# Altium schematic symbol library 10S_BYS_Schlib1.SchLib: 29 symbols
Pins are listed as number, name and electrical type; pins without a type are passive.

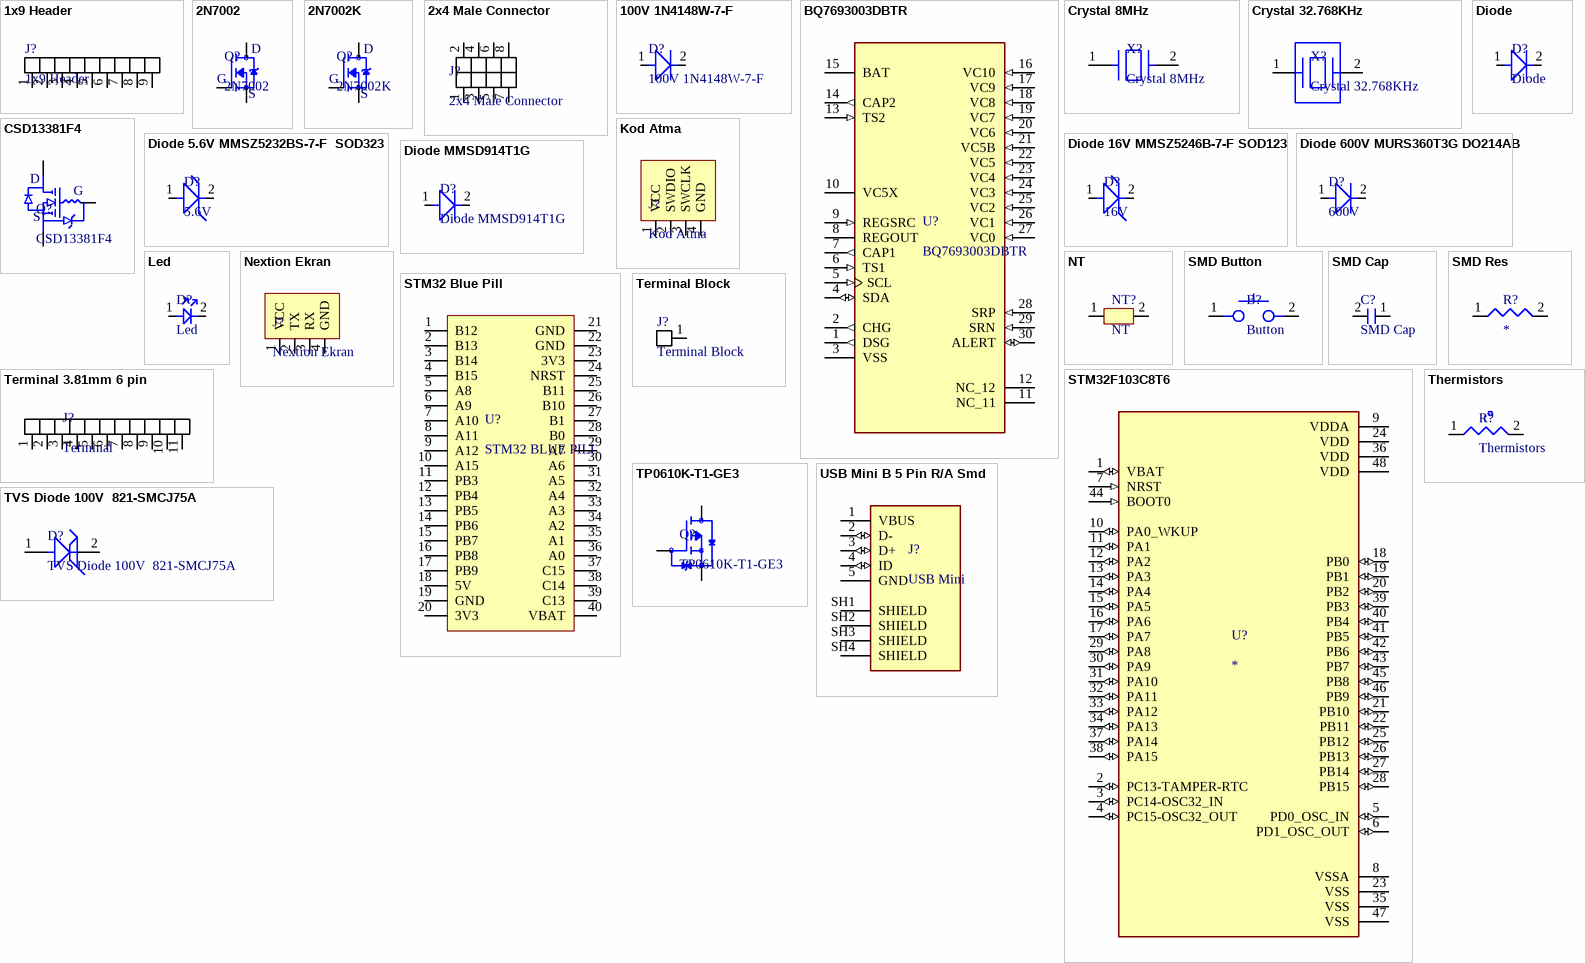
[diagram p0: symbols 1x9 Header to USB Mini B 5 Pin R/A Smd]

## 1x9 Header
designator J?
ComponentLink1Description: Satın Alma Linki; ComponentLink1URL: https://ozdisan.com/konnektor-ve-baglanti-elemanlari/header-konnektorler/pin-headerlar/DS1021-1X40SF11-B
footprint 1x9 Header
pins: 1, 2, 3, 4, 5, 6, 7, 8, 9

## 2N7002
designator Q?
N-Channel 60V 280mA (Ta) 350mW (Ta) Surface Mount SOT-23-3 (TO-236); Price: None; Package: None; Availability: Unavailable; MP: 2N7002; Value: *; ComponentLink1Description: Satın Alma Linki; ComponentLink1URL: https://ozdisan.com/guc-yari-iletkenleri/mosfetler/discrete-mosfetler/2N7002ET1G; ComponentLink2Description: Stokta Yok Satın Alma Linki; ComponentLink2URL: https://www.mouser.com.tr/ProductDetail/onsemi/2N7002ET1G?qs=PNhECL2hiouLrcURjXOtOg%3D%3D
footprint 2N7002ET1G Sot23
pins: 1, 2, 3
text: D; G; S

## 2N7002K
designator Q?
MP: 2N7002; Price: None; Package: None; Availability: Unavailable; Value: *; ComponentLink2Description: Stokta Yok Satın Alma Linki; ComponentLink2URL: https://www.mouser.com.tr/ProductDetail/Texas-Instruments/CSD19536KTT?qs=MiqG6Kq1qKP2NIsb3jZrDg%3D%3D; ComponentLink3Description: Satın Alma Linki; ComponentLink3URL: https://ozdisan.com/guc-yari-iletkenleri/mosfetler/discrete-mosfetler/2N7002KR100001
footprint SOT23
pins: 1, 2, 3
text: D; G; S

## 2x4 Male Connector
designator J?
ComponentLink1Description: Satın Alma Linki; ComponentLink1URL: https://tr.aliexpress.com/item/1005003057058334.html?spm=a2g0o.detail.1000014.5.7462aab6m2wUB9&gps-id=pcDetailBottomMoreOtherSeller&scm=1007.40000.267768.0&scm_id=1007.40000.267768.0&scm-url=1007.40000.267768.0&pvid=13aebcc4-8fe3-410a-825e-5f00a51fea93&_t=gps-id:pcDetailBottomMoreOtherSeller,scm-url:1007.40000.267768.0,pvid:13aebcc4-8fe3-410a-825e-5f00a51fea93,tpp_buckets:668%232846%238114%23728&pdp_ext_f=%7B%22sku_id%22%3A%2212000023625118168%22%2C%22sceneId%22%3A%2230050%22%7D&pdp_npi=2%40dis%21TRY%2116.15%2115.16%21%21%21%21%21%40211b442016658460773273581ed7e6%2112000023625118168%21rec; ComponentLink2Description: Satın Alma Linki; ComponentLink2URL: https://tr.aliexpress.com/item/1005002409430150.html?spm=a2g0o.detail.1000013.2.7462aab6m2wUB9&gps-id=pcDetailBottomMoreThisSeller&scm=1007.13339.291025.0&scm_id=1007.13339.291025.0&scm-url=1007.13339.291025.0&pvid=0634f447-b8d3-4b8e-985f-9da1bd6d18ed&_t=gps-id:pcDetailBottomMoreThisSeller,scm-url:1007.13339.291025.0,pvid:0634f447-b8d3-4b8e-985f-9da1bd6d18ed,tpp_buckets:668%232846%238114%231999&pdp_ext_f=%7B%22sku_id%22%3A%2212000020560012138%22%2C%22sceneId%22%3A%223339%22%7D&pdp_npi=2%40dis%21TRY%2116.74%2116.74%21%21%21%21%21%40211b442016658460398783143ed7e6%2112000020560012138%21rec
footprint TE_1761606-7
pins: 1, 2, 3, 4, 5, 6, 7, 8

## 100V 1N4148W-7-F
designator D?
ComponentLink1Description: Stokta Yok Satın Alma Linki; ComponentLink1URL: https://www.mouser.com.tr/ProductDetail/Diodes-Incorporated/1N4148W-7-F?qs=LHX0FizJzg7Ae9ZM8LTAWw%3D%3D; ComponentLink2Description: Satın Alma Linki; ComponentLink2URL: https://www.entegreci.com/urun/1n4148w-7-f/?gclid=CjwKCAjwkaSaBhA4EiwALBgQaFopvUdynQHBZreNY5J0ioudBY3UnuWWELuLj8oC_KfvY1kY9nnM0hoCZsEQAvD_BwE
footprint Diode 100V 1N4148W-7-F SOD123
pins: 1, 2

## BQ7693003DBTR
designator U?
6 to 10-Series Cell Li-Ion and Li-Phosphate Battery Monitor (bq76940 Family) 30-TSSOP -40 to 85; MF: Texas Instruments; Value: *; MP: BQ7693003DBTR; Package: TSSOP-30 Texas Instruments; Availability: Unavailable; SnapEDA_Link: https://www.snapeda.com/parts/BQ7693003DBTR/Texas%20Instruments/view-part/1237538/?ref=snap; Price: None; Purchase-URL: https://pricing.snapeda.com/search/part/BQ7693003DBTR/?ref=eda; ComponentLink1Description: Satın Alma Linki; ComponentLink1URL: https://www.mouser.com.tr/ProductDetail/Texas-Instruments/BQ7693003DBT?qs=%2Fd%252BFzHvH4c10HO0NTzPiCQ%3D%3D
footprint SOP50P640X120-30N
pins: 1 DSG (out), 2 CHG (out), 3 VSS (power), 4 SDA (io), 5 SCL (in), 6 TS1 (in), 7 CAP1 (out), 8 REGOUT (power), 9 REGSRC (in), 10 VC5X (power), 11 NC_11, 12 NC_12, 13 TS2 (in), 14 CAP2 (out), 15 BAT (power), 16 VC10 (in), 17 VC9 (in), 18 VC8 (in), 19 VC7 (in), 20 VC6 (in), 21 VC5B (in), 22 VC5 (in), 23 VC4 (in), 24 VC3 (in), 25 VC2 (in), 26 VC1 (in), 27 VC0 (in), 28 SRP (in), 29 SRN (in), 30 ALERT (io)

## Crystal 8MHz
designator X?
ComponentLink1Description: Satın Alma Linki; ComponentLink1URL: https://www.direnc.net/8000mhz-smd-kristal-hc-49us?language=tr&h=f6fe7d69&gclid=CjwKCAjwtKmaBhBMEiwAyINuwJlxOUSKq7yEOg6vZHQjk9zh6-KvzR1xNY_vDkS74c813dLFzBtt_RoCPOsQAvD_BwE
footprint Crystal 8MHz
pins: 1, 2

## Crystal 32.768KHz
designator X?
ComponentLink1Description: Satın Alma Linki; ComponentLink1URL: https://www.ozdisan.com/pasif-komponentler/kristaller-osilatorler-ve-rezanatorler/kristaller/R26-32-768-12-5-EXT
footprint Crystal 32.768KHz
pins: 1, 2

## CSD13381F4
designator Q?
N-Channel 12V 2.1A _Ta_ 500mW _Ta_ Surface Mount 3-PICOSTAR; MF: Texas Instruments; MP: CSD13381F4; SnapEDA_Link: https://www.snapeda.com/parts/CSD13381F4/Texas%20Instruments/view-part/138792/?ref=snap; Value: *; Package: XFDFN-3 Texas Instruments; Price: None; Availability: Unavailable; ComponentLink1Description: Satın Alma Linki; ComponentLink1URL: https://www.mouser.com.tr/ProductDetail/Texas-Instruments/CSD13381F4?qs=OGNXFUZBARsOFU3S%252BJVO5g%3D%3D
footprint DFN100X60X35-3N
pins: 1, 2, 3
text: D; G; S

## Diode
designator D?
ComponentLink1Description: Satın Alma Linki; ComponentLink1URL: https://www.ozdisan.com/guc-yari-iletkenleri/diyotlar-modul-diyotlar-ve-dogrultucular/schottky-diyotlar/SS14R100001; ComponentLink2Description: Aynısı Değil Satın Alma Linki; ComponentLink2URL: https://cdn.ozdisan.com/ETicaret_Dosya/34293_8630261.pdf
footprint Diode
pins: 1, 2

## Diode 5.6V MMSZ5232BS-7-F  SOD323
designator D?, comment 5.6V
Diode 5.6V MMSZ5232BS-7-F  SOD323; ComponentLink1Description: Satın Alma Linki; ComponentLink1URL: https://www.mouser.com.tr/ProductDetail/Diodes-Incorporated/MMSZ5232BS-7-F?qs=4u4ada%252BXaA6tF4wEjgPe2w%3D%3D; ComponentLink2Description: Aynısı Değil Satın Alma Linki; ComponentLink2URL: https://www.ozdisan.com/guc-yari-iletkenleri/diyot-modul-diyot-dogrultucular/zener-diyotlar/MMSZ5226B-7-F
footprint Diode 5.6V MMSZ5 SOD323
pins: 1, 2

## Diode 16V MMSZ5246B-7-F SOD123
designator D?, comment 16V
Diode 16V MMSZ5246B-7-F / SOD123; ComponentLink1Description: Satın Alma Linki; ComponentLink1URL: https://www.mouser.com.tr/ProductDetail/Diodes-Incorporated/MMSZ5246B-7-F?qs=YL8BMuhSknSfmeWTDXIh1Q%3D%3D
footprint Diode 16V MMSZ16V SOD123
pins: 1, 2

## Diode 600V MURS360T3G DO214AB
designator D?, comment 600V
Diode 600V MURS360T3G DO214AB; ComponentLink1Description: Satın Alma Linki; ComponentLink1URL: https://www.ozdisan.com/Product/Detail/342503/MURS360T3G; ComponentLink2Description: Stok Yok Satın Alma Linki; ComponentLink2URL: https://www.mouser.com.tr/ProductDetail/onsemi/MURS360T3G?qs=Gev%252BmEvV0iZjP8fPE8409A%3D%3D
footprint Diode 600V MURS360T3G DO214AB
pins: 1, 2

## Diode MMSD914T1G
designator D?
ComponentLink1Description: Satın Alma Linki; ComponentLink1URL: https://www.mouser.com.tr/ProductDetail/onsemi/MMSD914T1G?qs=P4IOph%252Bbot8PMEQIZWg1LQ%3D%3D
footprint Diode MMSD914T1G
pins: 1, 2

## Kod Atma
designator J?
ComponentLink1Description: Satın Alma Linki; ComponentLink1URL: https://www.ozdisan.com/konnektor-ve-baglanti-elemanlari/header-konnektorler/pin-headerlar/5PH1RDA25126G0NNBL6X3X3-; ComponentLink2Description: Satıın Alma Linki; ComponentLink2URL: https://www.robotistan.com/jstxh-254mm-egik-4pin-konnektor; ComponentLink3Description: Satın Alma Linki; ComponentLink3URL: https://www.robotistan.com/jstxh-254mm-egik-4pin-konnektor
footprint 1X4 Male Header
pins: 1 VCC, 2 SWDIO, 3 SWCLK, 4 GND

## Led
designator D?
ComponentLink1Description: Satın Alma Linki; ComponentLink1URL: https://ozdisan.com/led-ve-aydinlatma-cozumleri/led-komponentler/sinyal-ledler-renkli/27-21R6C-AP1Q2B3C
footprint Led
pins: 1, 2

## Nextion Ekran
designator J?
ComponentLink1Description: Satın Alma Linki; ComponentLink1URL: https://www.ozdisan.com/konnektor-ve-baglanti-elemanlari/header-konnektorler/pin-headerlar/5PH1RDA25126G0NNBL6X3X3-; ComponentLink2Description: Satıın Alma Linki; ComponentLink2URL: https://www.robotistan.com/jstxh-254mm-egik-4pin-konnektor; ComponentLink3Description: Satın Alma Linki; ComponentLink3URL: https://www.robotistan.com/jstxh-254mm-egik-4pin-konnektor
footprint 1X4 Male Header
pins: 1 VCC, 2 TX, 3 RX, 4 GND

## NT
designator NT?
ComponentLink1Description: Satın Alma Linki; ComponentLink1URL: *
footprint Net Tie
pins: 1, 2

## SMD Button
designator B?, comment Button
ComponentLink1Description: Satın Alma Linki; ComponentLink1URL: https://www.ozdisan.com/elektromekanik-komponentler/sivicler-ve-anahtarlar/tact-sivicler/L-KLS7-TS3611-2-5-180-T
footprint SMD Button
pins: 1, 2

## SMD Cap
designator C?
ComponentLink1Description: 0.22uF 0603 Özdi 12 16V; ComponentLink1URL: https://www.ozdisan.com/pasif-komponentler/kondansatorler/smt-smd-ve-mlcc-kondansatorler/CL10B224KO8NNNC; ComponentLink2Description: 10uF 0805 Özdis 2 35V; ComponentLink2URL: https://www.ozdisan.com/pasif-komponentler/kondansatorler/smt-smd-ve-mlcc-kondansatorler/GRM21BR6YA106ME43L; ComponentLink3Description: 1uF 0603 Özdis 2 50V; ComponentLink3URL: https://www.ozdisan.com/pasif-komponentler/kondansatorler/smt-smd-ve-mlcc-kondansatorler/CL10A105KB8NNNC; ComponentLink4Description: 1uF 0603 Özdis 2 16V; ComponentLink4URL: https://www.ozdisan.com/pasif-komponentler/kondansatorler/smt-smd-ve-mlcc-kondansatorler/CC0603KRX7R7BB105; ComponentLink5Description: 4.7nF 0603 Özdis 2 50V; ComponentLink5URL: https://www.ozdisan.com/pasif-komponentler/kondansatorler/smt-smd-ve-mlcc-kondansatorler/CL10B472KB8NNNC; ComponentLink6Description: 4.7uF 0603 Özdis 2; ComponentLink6URL: https://ozdisan.com/pasif-komponentler/kondansatorler/smt-smd-ve-mlcc-kondansatorler/CC0603KRX5R6BB475; ComponentLink7Description: 470pF 0603 Özdis 1; ComponentLink7URL: https://www.ozdisan.com/pasif-komponentler/kondansatorler/smt-smd-ve-mlcc-kondansatorler/CL10B471KB8NNNC; ComponentLink8Description: 100nF 0603 Özdis 3 50V; ComponentLink8URL: https://www.ozdisan.com/pasif-komponentler/kondansatorler/smt-smd-ve-mlcc-kondansatorler/CL10B104KB8NNNC; ComponentLink9Description: 100nF 0603 Özdi 2; ComponentLink9URL: https://www.ozdisan.com/pasif-komponentler/kondansatorler/smt-smd-ve-mlcc-kondansatorler/CL10B104KO8NNNC; ComponentLink10Description: 100nF 0805 Özd 4; ComponentLink10URL: https://www.ozdisan.com/pasif-komponentler/kondansatorler/smt-smd-ve-mlcc-kondansatorler/CL21B104KCFNNNE; ComponentLink11Description: 20pF 0603 Özdis; ComponentLink11URL: https://www.ozdisan.com/pasif-komponentler/kondansatorler/smt-smd-ve-mlcc-kondansatorler/CL10C200JB8NNNC
footprint CAP 0805
footprint CAP 0603_1608 (Chip Capacitor, 2-Leads, Body 1.60x0.80mm, IPC Medium Density)
pins: 1, 2

## SMD Res
designator R?
ComponentLink1Description: 1k 0603 Özdis 20; ComponentLink1URL: https://ozdisan.com/pasif-komponentler/direncler/smt-smd-ve-cip-direncler/0603SAJ0102T5E; ComponentLink2Description: 28 0603 Özdis 10; ComponentLink2URL: https://ozdisan.com/pasif-komponentler/direncler/smt-smd-ve-cip-direncler/0603SAF280JT5E; ComponentLink3Description: 10k 0603 Özdis 13; ComponentLink3URL: https://ozdisan.com/pasif-komponentler/direncler/smt-smd-ve-cip-direncler/0603SAJ0103T5E; ComponentLink4Description: 100k 603 Özdis 2; ComponentLink4URL: https://ozdisan.com/pasif-komponentler/direncler/smt-smd-ve-cip-direncler/0603SAJ0104T5E; ComponentLink5Description: 100 0603 Özdis 15; ComponentLink5URL: https://ozdisan.com/pasif-komponentler/direncler/smt-smd-ve-cip-direncler/0603SAJ0101T5E; ComponentLink6Description: 3k 0603 Özdis 2; ComponentLink6URL: https://ozdisan.com/pasif-komponentler/direncler/smt-smd-ve-cip-direncler/0603SAJ0104T5E; ComponentLink7Description: 100 0603 Özdis 3; ComponentLink7URL: https://ozdisan.com/pasif-komponentler/direncler/smt-smd-ve-cip-direncler/0603SAJ0101T5E; ComponentLink8Description: 3k 0603 Özdis 2; ComponentLink8URL: https://ozdisan.com/pasif-komponentler/direncler/smt-smd-ve-cip-direncler/0603SAF3001T5E; ComponentLink9Description: 499k 0603 Özdis 1; ComponentLink9URL: https://ozdisan.com/pasif-komponentler/direncler/smt-smd-ve-cip-direncler/0603SAF4993T5E; ComponentLink10Description: 1M 0603 Özdis 2; ComponentLink10URL: https://ozdisan.com/pasif-komponentler/direncler/smt-smd-ve-cip-direncler/0603SAJ0105T5E; ComponentLink11Description: Şönt Direnç Mouser 3; ComponentLink11URL: https://www.mouser.com.tr/ProductDetail/IRC-TT-Electronics/ULRB2-2512-R0015-F-LF-SLT?qs=RpCC5rqKMIxJM%2F%2FuW6KBxA%3D%3D; ComponentLink12Description: 220 0603 Özdi 4; ComponentLink12URL: https://ozdisan.com/pasif-komponentler/direncler/smt-smd-ve-cip-direncler/0603SAJ0221T5E; ComponentLink13Description: 330 0603 Özdi 30; ComponentLink13URL: https://www.ozdisan.com/pasif-komponentler/direncler/smt-smd-ve-cip-direncler/0603SAJ0331T5E
footprint 0603 Res
footprint Sont Res
footprint 0805 Res
pins: 1, 2

## STM32 Blue Pill
designator U?, comment STM32 BLUE PILL
ComponentLink1Description: Satın Alma Linki; ComponentLink1URL: https://www.ozdisan.com/konnektor-ve-baglanti-elemanlari/header-konnektorler/disi-headerlar/DS1023-1X20S21; ComponentLink2Description: Satın Alma Linki; ComponentLink2URL: *
footprint STM32 BLUE PILL
pins: 1 B12, 2 B13, 3 B14, 4 B15, 5 A8, 6 A9, 7 A10, 8 A11, 9 A12, 10 A15, 11 PB3, 12 PB4, 13 PB5, 14 PB6, 15 PB7, 16 PB8, 17 PB9, 18 5V, 19 GND, 20 3V3, 21 GND, 22 GND, 23 3V3, 24 NRST, 25 B11, 26 B10, 27 B1, 28 B0, 29 A7, 30 A6, 31 A5, 32 A4, 33 A3, 34 A2, 35 A1, 36 A0, 37 C15, 38 C14, 39 C13, 40 VBAT

## STM32F103C8T6
designator U?
Mainstream Performance line, ARM Cortex-M3 MCU with 64 Kbytes Flash, 72 MHz CPU, motor control, USB and CAN; MP: STM32F103C8T6; Value: *; Availability: Unavailable; Price: None; Package: None; ComponentLink1Description: Satın Alma Linki; ComponentLink1URL: https://www.direnc.net/stm32f051c8t6-smd-32bit-48mhz-mikrodenetleyici-lqfp48?language=tr&h=a48fd769
footprint QFP50P900X900X160-48N
pins: 1 VBAT (io), 2 PC13-TAMPER-RTC (io), 3 PC14-OSC32_IN (io), 4 PC15-OSC32_OUT (io), 5 PD0_OSC_IN (io), 6 PD1_OSC_OUT (io), 7 NRST (in), 8 VSSA (power), 9 VDDA (power), 10 PA0_WKUP (io), 11 PA1 (io), 12 PA2 (io), 13 PA3 (io), 14 PA4 (io), 15 PA5 (io), 16 PA6 (io), 17 PA7 (io), 18 PB0 (io), 19 PB1 (io), 20 PB2 (io), 21 PB10 (io), 22 PB11 (io), 23 VSS (power), 24 VDD (power), 25 PB12 (io), 26 PB13 (io), 27 PB14 (io), 28 PB15 (io), 29 PA8 (io), 30 PA9 (io), 31 PA10 (io), 32 PA11 (io), 33 PA12 (io), 34 PA13 (io), 35 VSS (power), 36 VDD (power), 37 PA14 (io), 38 PA15 (io), 39 PB3 (io), 40 PB4 (io), 41 PB5 (io), 42 PB6 (io), 43 PB7 (io), 44 BOOT0 (in), 45 PB8 (io), 46 PB9 (io), 47 VSS (power), 48 VDD (power)

## Terminal 3.81mm 6 pin
designator J?, comment Terminal
ComponentLink1Description: Satın Alma Linki; ComponentLink1URL: https://www.ozdisan.com/konnektor-ve-baglanti-elemanlari/klemensler/gecmeli-klemensler/15EDGK-3-81-11P-14-00SH; ComponentLink2Description: Satın Alma Linki; ComponentLink2URL: https://www.ozdisan.com/konnektor-ve-baglanti-elemanlari/klemensler/gecmeli-klemensler/15EDGRC-3-81-11P-14-00SH
footprint Terminal 2.54mm 6 Pin
pins: 1, 2, 3, 4, 5, 6, 7, 8, 9, 10, 11

## Terminal Block
designator J?
ComponentLink1Description: Satın Alma Linki; ComponentLink1URL: https://www.mouser.com.tr/ProductDetail/Wurth-Elektronik/7460305?qs=lykWx4dhCCFff%252BCw5NXeEQ%3D%3D; ComponentLink2Description: Satın Alma Linki; ComponentLink2URL: https://www.ozdisan.com/konnektor-ve-baglanti-elemanlari/terminal-konnektorler/vida-tipi-konnektorler/K34-00AH
footprint Terminal Block
pins: 1

## Thermistors
designator R?
ComponentLink1Description: Satın Alma Linki; ComponentLink1URL: https://www.mouser.com.tr/ProductDetail/Semitec/103AT-2?qs=wgO0AD0o1vvcDzsKguD%252Bew%3D%3D
footprint Termistor
pins: 1, 2
text: t

## TP0610K-T1-GE3
designator Q?
P-Channel 60V 185mA (Ta) 350mW (Ta) Surface Mount SOT-23-3 (TO-236); MF: Vishay Siliconix; Availability: Unavailable; SnapEDA_Link: https://www.snapeda.com/parts/TP0610K-T1-GE3/Vishay%20Siliconix/view-part/246794/?ref=snap; Price: None; Package: SOT-23-3 Vishay Siliconix; MP: TP0610K-T1-GE3; Value: *; ComponentLink1Description: Satın Alma Linki; ComponentLink1URL: https://www.mouser.com.tr/ProductDetail/Vishay-Semiconductors/TP0610K-T1-GE3?qs=%252BPu8jn5UVnHRmuP8w8PVnQ%3D%3D
footprint TP0610K-T1-GE3  sot23
pins: 1 G, 2 S, 3 D

## TVS Diode 100V  821-SMCJ75A
designator D?
ComponentLink1Description: Satın Alma Linki; ComponentLink1URL: https://www.mouser.com.tr/ProductDetail/Taiwan-Semiconductor/SMCJ75A?qs=tHU%2FlV7kTyR2owasA%252BU%252BUg%3D%3D
footprint TVS Diode 100V  MMSD4148T1G SOD123
pins: 1, 2

## USB Mini B 5 Pin R/A Smd
designator J?, comment USB Mini
MINI USB, R/A, 2.0 TYPE B, RCPT, SMD; USB Connector Type:Mini USB Type B; USB Standard:USB 2.0; Gender:Receptacle; No. of Positions:5Positions; Connector Mounting:Surface Mount; Orientation:Right Angle; Contact Material:Copper Alloy RoHS Compliant: Yes; MP: 10033526N3212LF; MF: Amphenol; Package: None; Availability: In Stock; Value: *; Price: None; SnapEDA_Link: https://www.snapeda.com/parts/10033526N3212LF/Amphenol/view-part/?ref=snap; Check_prices: https://www.snapeda.com/parts/10033526N3212LF/Amphenol/view-part/?ref=eda; ComponentLink1Description: Satın Alma Linki; ComponentLink1URL: https://tr.aliexpress.com/item/32956284644.html?spm=a2g0o.productlist.0.0.286f29cffy47zX&algo_pvid=46227d30-f708-48e2-9949-4d7655007d27&aem_p4p_detail=2022101508185410937225628604800000356585&algo_exp_id=46227d30-f708-48e2-9949-4d7655007d27-1&pdp_ext_f=%7B%22sku_id%22%3A%2266417361509%22%7D&pdp_npi=2%40dis%21TRY%2111.82%2110.83%21%21%21106.34%21%21%402103255a16658471344973798eca68%2166417361509%21sea&curPageLogUid=zGZlSgpdMXAF&ad_pvid=2022101508185410937225628604800000356585_2
footprint AMPHENOL_10033526-N3212LF
pins: 1 VBUS (power), 2 D- (io), 3 D+ (io), 4 ID (io), 5 GND (power), SH1 SHIELD, SH2 SHIELD, SH3 SHIELD, SH4 SHIELD